# Altium schematic symbol library koncept.SchLib: 22 symbols
Pins are listed as number, name and electrical type; pins without a type are passive.

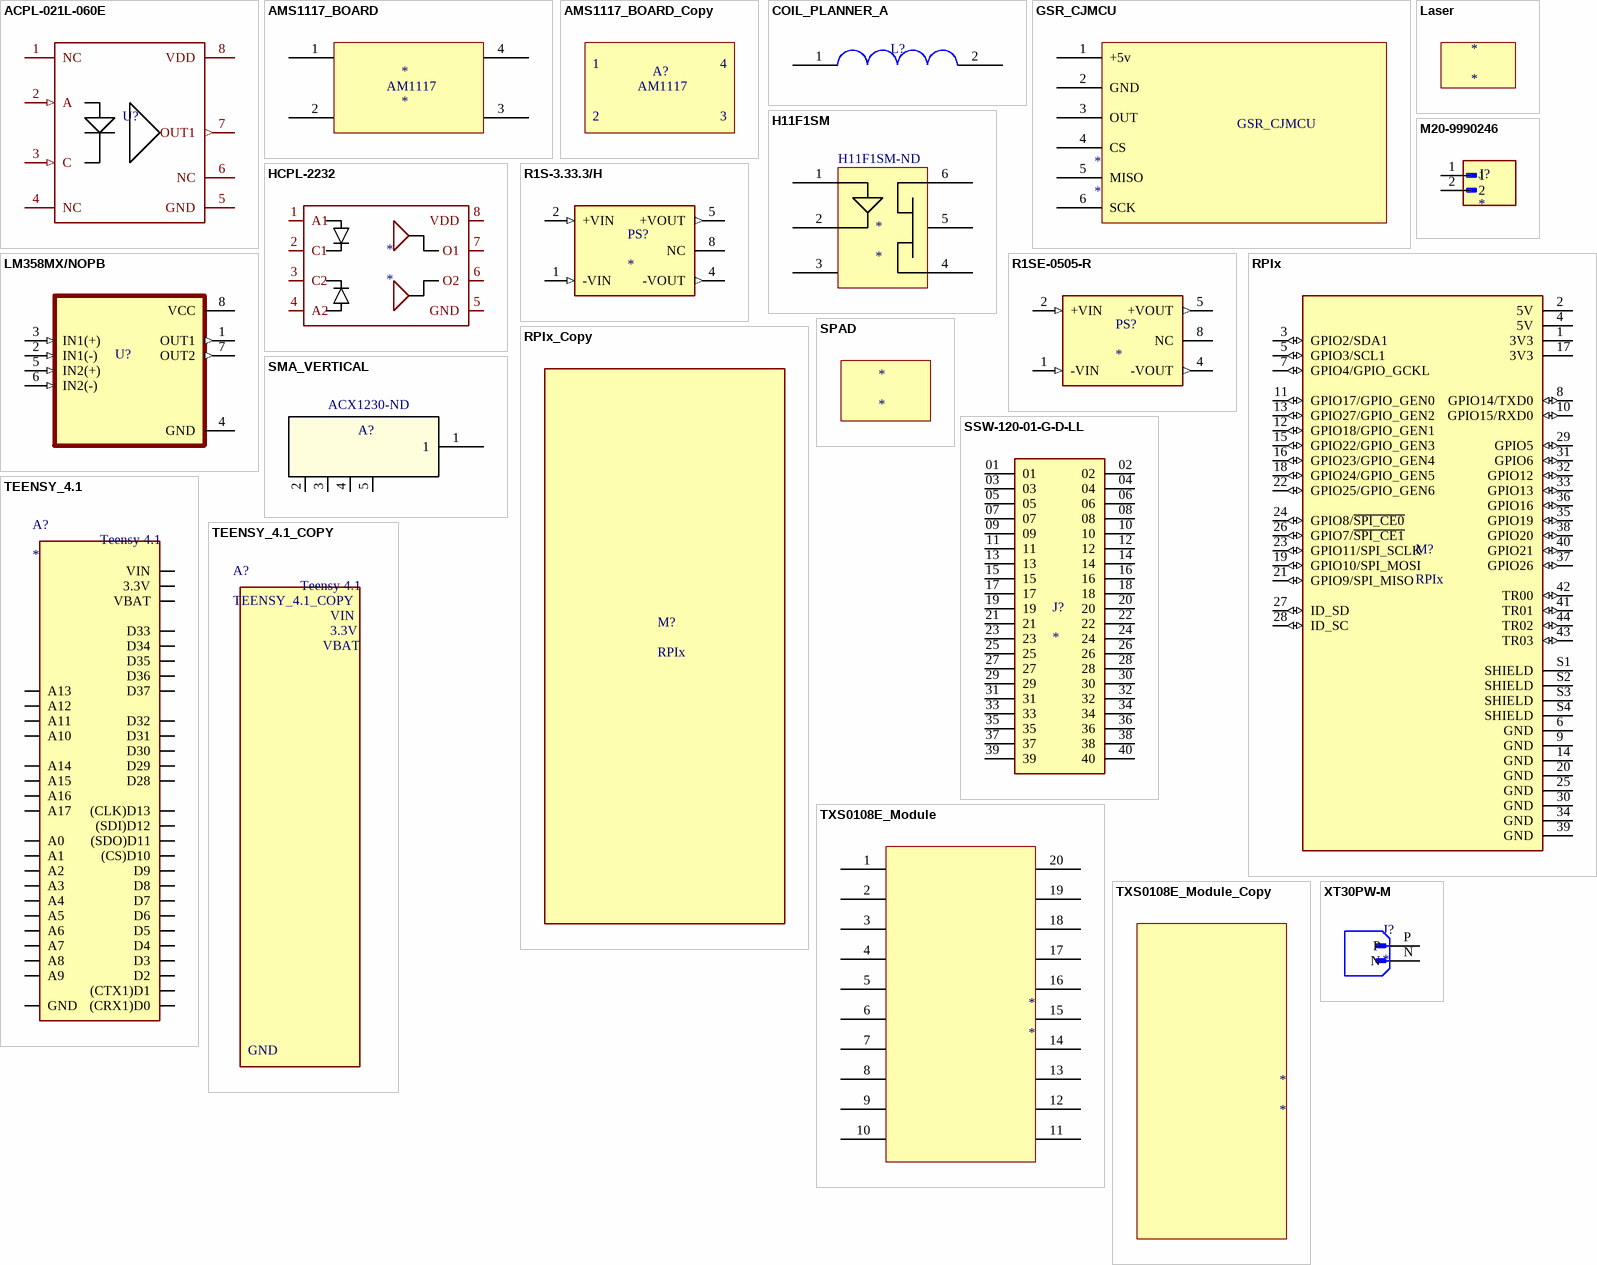
[diagram p0: symbols ACPL-021L-060E to XT30PW-M]

## ACPL-021L-060E
designator U?  (value not drawn)
OPTOISO 3.75KV PUSH PULL 8SO; Manufacturer: Broadcom Avago; Manufacturer Part Number: ACPL-021L-060E; Number of Channels: 1; Propagation Delay: 250ns; Direction: Unidirectional; Max Power Dissipation: 600mW; Output Current per Channel: 10mA; Fall Time: 0.011us; Forward Voltage: 1.5V; Output Type: PUSH-PULL; Input Type: DC; Supplier 1: Digikey; RoHS: Yes; Category: Optocouplers; Stock 1: 3610; Pricing 1: 1=2.64, 10=1.912, 100=1.4777, 500=1.28686, 1000=1.22467, 2000=1.172, 5000=1.11461 (USD); Mount: Surface Mount; Case/Package: SOIC; Number of Pins: 8; Min Operating Temperature: -40°C; Max Operating Temperature: 105°C; Package Quantity: 100; Packaging: Rail/Tube; Turn-On Delay Time: 250ns; Series: -; Radiation Hardening: No; RoHS Compliant: Yes; ComponentLink1URL: https://docs.broadcom.com/docs/AV02-3462EN?src-supplier=Digikey; ComponentLink1Description: https://docs.broadcom.com/docs/AV02-3462EN?src-supplier=Digikey; ComponentLink2URL: http://www.avagotech.com/docs/AV02-3462EN?src-supplier=Avnet; ComponentLink2Description: http://www.avagotech.com/docs/AV02-3462EN?src-supplier=Avnet; Supplier Part Number 1: ACPL-021L-060E-ND
pins: 1 NC, 2 A (in), 3 C (in), 4 NC, 5 GND, 6 NC, 7 OUT1 (out), 8 VDD (power)

## AMS1117_BOARD
designator *
footprint AM117_BOARD
pins: 1, 2, 3, 4
text: AM1117

## AMS1117_BOARD_Copy
designator A?  (value not drawn)
footprint AM117_BOARD_Copy
text: 1; 4; AM1117; 2; 3

## COIL_PLANNER_A
designator L?  (value not drawn)
footprint COIL_PLANNER_A
pins: 1, 2

## GSR_CJMCU
designator *
footprint CJMCU_GSR
pins: 1 +5v, 2 GND, 3 OUT, 4 CS, 5 MISO, 6 SCK

## H11F1SM
designator *  Supplier Part Number 1: H11F1SM-ND
Optocoupler DC-IN 1-CH Transistor DC-OUT 6-Pin PDIP SMD White Bulk; Manufacturer: onsemi; Manufacturer Part Number: H11F1SM; Max Power Dissipation: 300mW; Reverse Breakdown Voltage: 5V; Forward Voltage: 1.75V; Forward Current: 60mA; Number of Channels: 1; Max Output Voltage: 30V; Isolation Voltage: 5.25kV; Input Type: DC; Isolation Voltage-Max: 5.3kV; Turn-Off Delay Time: 45us; Supplier 1: Digikey; RoHS: Yes; Category: Optocouplers; Stock 1: 1561; Pricing 1: 1=1.49, 50=0.8592, 100=0.7943, 500=0.67846, 1000=0.6406, 2000=0.60852, 5000=0.57351, 10000=0.55172 (USD); Mount: Surface Mount; Case/Package: SMD/SMT; Number of Pins: 6; Weight: 0.81g; Min Operating Temperature: -40°C; Max Operating Temperature: 100°C; Packaging: Bulk; Package Quantity: 1000; Reverse Voltage (DC): 5V; Max Input Current: 60mA; Number of Elements: 1; Power Dissipation: 300mW; Min Breakdown Voltage: 30V; Series: -; Reverse Voltage: 5V; Turn-On Delay Time: 45us; Length: 8.89mm; Width: 6.6mm; Height: 3.53mm; Radiation Hardening: No; Lead Free: Lead Free; RoHS Compliant: Yes; ComponentLink1URL: https://datasheet.ciiva.com/11772/0900766b80b4f817-11772282.pdf?src-supplier=Rs; ComponentLink1Description: https://datasheet.ciiva.com/11772/0900766b80b4f817-11772282.pdf?src-supplier=Rs; ComponentLink2URL: https://datasheet.ciiva.com/15118/getdatasheetpartid-172469-15118870.pdf?src-supplier=Verical; ComponentLink2Description: https://datasheet.ciiva.com/15118/getdatasheetpartid-172469-15118870.pdf?src-supplier=Verical
footprint OPTOCOUPLER_H11F3SR2M
pins: 1, 2, 3, 4, 5, 6

## HCPL-2232
designator *
Optocoupler Logic Output Totem-Pole DC Input 2 Channel 8-Pin Plastic Dip Tube; Manufacturer: Broadcom Avago; Rise Time: 30ns; Number of Channels: 2; Output Current per Channel: 25mA; Isolation Voltage: 3.75kV; Data Rate: 5Mbps; Max Power Dissipation: 294mW; Propagation Delay: 300ns; Direction: Unidirectional; Forward Current: 10mA; Forward Voltage: 1.7V; Reverse Breakdown Voltage: 5V; Fall Time: 0.007us; Output Type: TOTEM POLE; Input Current: 1.8mA; Polarity: Non-Inverting; Supplier 1: Digikey; Manufacturer Part Number: HCPL-2232; RoHS: No; Category: Optocouplers; Stock 1: 448; Pricing 1: 1=14.3, 50=9.7886, 100=9.3402, 500=8.54718, 1000=8.29007 (USD); Mount: Through Hole; Case/Package: DIP; Number of Pins: 8; Min Operating Temperature: -40°C; Max Operating Temperature: 85°C; Packaging: Rail/Tube; Output Current: 25mA; Package Quantity: 50; Turn-On Delay Time: 300ns; Number of Elements: 2; Power Dissipation: 294mW; Series: -; Input Type: DC; Max Output Current: 25mA; Length: 9.65mm; Width: 6.35mm; Height: 3.56mm; Radiation Hardening: No; Lead Free: Contains Lead; RoHS Compliant: No; Reach SVHC Compliant: No; ComponentLink1URL: https://datasheet.ciiva.com/15119/getdatasheetpartid-112638-15119660.pdf?src-supplier=Verical; ComponentLink1Description: https://datasheet.ciiva.com/15119/getdatasheetpartid-112638-15119660.pdf?src-supplier=Verical; ComponentLink2URL: https://datasheet.ciiva.com/8065/310763-8065655.pdf?src-supplier=Element14; ComponentLink2Description: https://datasheet.ciiva.com/8065/310763-8065655.pdf?src-supplier=Element14; Supplier Part Number 1: 516-HCPL-2232-ND
footprint DIL08
pins: 1 A1 (power), 2 C1 (power), 3 C2 (power), 4 A2 (power), 5 GND (power), 6 O2 (power), 7 O1 (power), 8 VDD (power)

## Laser
designator *
footprint Laser

## LM358MX/NOPB
designator U?  (value not drawn)
ROHS3Compliant EAR99 LM358 Tape & Reel (TR) op amp amplifier circuit 4.9mm 0.05muA 7mV 1000kHz; Manufacturer: TI National Semiconductor; Bandwidth: 1MHz; Slew Rate: 0.1V/µs; Min Supply Voltage: 3V; Max Supply Voltage: 32V; Min Dual Supply Voltage: 1.5V; Max Dual Supply Voltage: 16V; Voltage Gain: 100dB; Common Mode Rejection Ratio: 65dB; Number of Circuits: 2; Input Offset Voltage (Vos): 2mV; Input Bias Current: 45nA; Operating Supply Current: 1mA; Power Dissipation: 530mW; Amplifier Type: GENERAL PURPOSE; Output Current per Channel: 40mA; Supplier 1: Digikey; Manufacturer Part Number: LM358MX/NOPB; RoHS: Yes; Category: Amplifiers - Op Amps, Buffer, Instrumentation; Stock 1: 13116; Pricing 1: 1=0.81, 10=0.576, 25=0.5184, 100=0.455, 250=0.42464, 500=0.40636, 1000=0.3913 (USD); Mount: Surface Mount; Case/Package: SOIC; Number of Pins: 8; Min Operating Temperature: 0°C; Max Operating Temperature: 70°C; Packaging: Tape and Reel; Unity Gain Bandwidth Product: 1MHz; Gain Bandwidth Product: 1MHz; Number of Amplifiers: 2; Number of Elements: 2; Power Supply Rejection Ratio (PSRR): 65dB; Series: -; Technology: BIPOLAR; Length: 4.9mm; Width: 3.91mm; Height: 1.75mm; Thickness: 1.58mm; Reach SVHC Compliant: No; Lead Free: Lead Free; ComponentLink1URL: https://datasheet.ciiva.com/6631/lm158-n-6631238.pdf?src-supplier=Digikey; ComponentLink1Description: https://datasheet.ciiva.com/6631/lm158-n-6631238.pdf?src-supplier=Digikey; ComponentLink2URL: https://datasheet.ciiva.com/6631/lm158-n-6631239.pdf?src-supplier=Digikey; ComponentLink2Description: https://datasheet.ciiva.com/6631/lm158-n-6631239.pdf?src-supplier=Digikey; ComponentLink3URL: https://datasheet.ciiva.com/6631/lm158-n-6631240.pdf?src-supplier=Digikey; ComponentLink3Description: https://datasheet.ciiva.com/6631/lm158-n-6631240.pdf?src-supplier=Digikey; ComponentLink4URL: https://datasheet.ciiva.com/8009/28655-8009193.pdf?src-supplier=Element14; ComponentLink4Description: https://datasheet.ciiva.com/8009/28655-8009193.pdf?src-supplier=Element14; Supplier Part Number 1: LM358MX/NOPBCT-ND
footprint SOIC127P599X175-8N
pins: 1 OUT1 (out), 2 IN1(-) (in), 3 IN1(+) (in), 4 GND (power), 5 IN2(+) (in), 6 IN2(-) (in), 7 OUT2 (out), 8 VCC (power)

## M20-9990246
designator J?
2.54mm (0.1) Pitch SIL Vertical Throughboard Pin Header, 6.1mm mating pin height, tin, 2 contacts; MF: Harwin; MP: M20-9990246; SnapEDA_Link: https://www.snapeda.com/parts/M20-9990246/Harwin/view-part/?ref=snap; Package: None; Value: *; Check_prices: https://www.snapeda.com/parts/M20-9990246/Harwin/view-part/?ref=eda; Supplier Part Number 1: 952-2262-ND
footprint HARWIN_M20-9990246
pins: 1, 2

## R1S-3.33.3/H
designator PS?
1W DC/DC-Converter 'ECONOLINE' SMD 3kV unreg; MF: Recom Power; MP: R1S-3.33.3/H; Value: *; Purchase-URL: https://pricing.snapeda.com/search/part/R1S-3.33.3/H/?ref=eda; Digi-Key_Part_Number: 945-1753-5-ND; Check_prices: https://www.snapeda.com/parts/R1S-3.33.3/H/Recom+Power/view-part/?ref=eda; SnapEDA_Link: https://www.snapeda.com/parts/R1S-3.33.3/H/Recom+Power/view-part/?ref=snap; Package: SMD-8 Recom Power
footprint CONV_R1S-3.33.3/H
pins: 1 -VIN (in), 2 +VIN (in), 4 -VOUT (out), 5 +VOUT (out), 8 NC

## R1SE-0505-R
designator PS?
1W DC/DC-Converter 'ECONOLINE' SMD 1kV unreg; MF: Recom Power; MP: R1SE-0505-R; SnapEDA_Link: https://www.snapeda.com/parts/R1SE-0505-R/Recom+Power/view-part/?ref=snap; Package: None; Value: *; Check_prices: https://www.snapeda.com/parts/R1SE-0505-R/Recom+Power/view-part/?ref=eda; Supplier Part Number 1: 945-1659-2-ND
footprint CONV_R1SE-0505-R
pins: 1 -VIN (in), 2 +VIN (in), 4 -VOUT (out), 5 +VOUT (out), 8 NC

## RPIx
designator M?
footprint MODULE_RASPBERRY_PI_3_MODEL_B+
pins: 1 3V3 (power), 2 5V (power), 3 GPIO2/SDA1 (io), 4 5V (power), 5 GPIO3/SCL1 (io), 6 GND (power), 7 GPIO4/GPIO_GCKL (io), 8 GPIO14/TXD0 (io), 9 GND (power), 10 GPIO15/RXD0 (io), 11 GPIO17/GPIO_GEN0 (io), 12 GPIO18/GPIO_GEN1 (io), 13 GPIO27/GPIO_GEN2 (io), 14 GND (power), 15 GPIO22/GPIO_GEN3 (io), 16 GPIO23/GPIO_GEN4 (io), 17 3V3 (power), 18 GPIO24/GPIO_GEN5 (io), 19 GPIO10/SPI_MOSI (io), 20 GND (power), 21 GPIO9/SPI_MISO (io), 22 GPIO25/GPIO_GEN6 (io), 23 GPIO11/SPI_SCLK (io), 24 GPIO8/~{SPI_CE0} (io), 25 GND (power), 26 GPIO7/~{SPI_CE1} (io), 27 ID_SD (io), 28 ID_SC (io), 29 GPIO5 (io), 30 GND (power), 31 GPIO6 (io), 32 GPIO12 (io), 33 GPIO13 (io), 34 GND (power), 35 GPIO19 (io), 36 GPIO16 (io), 37 GPIO26 (io), 38 GPIO20 (io), 39 GND (power), 40 GPIO21 (io), 41 TR01 (io), 42 TR00 (io), 43 TR03 (io), 44 TR02 (io), S1 SHIELD (power), S2 SHIELD (power), S3 SHIELD (power), S4 SHIELD (power)

## RPIx_Copy
designator M?, comment RPIx
footprint MODULE_RASPBERRY_PI_3_COPY

## SMA_VERTICAL
designator A?  Supplier Part Number 1: ACX1230-ND  (hidden comment: SMA_VERTICAL)
connector, rf coaxial, sma str jack for p.c.board, 4 legs, .050 center cont, 50 ohm; Manufacturer: Amphenol Connex; Manufacturer Part Number: 132134; Number of Contacts: 1NUMBER; Supplier 1: Digikey; RoHS: Yes; Category: RF / Coaxial Connectors; Stock 1: 8757; Pricing 1: 1=5.97, 10=5.52, 25=5.362, 50=4.965, 100=4.5941, 300=4.48817, 500=3.66732, 2500=3.43802 (USD); Lead Free: 5697LeadFree; ComponentLink1URL: https://datasheet.ciiva.com/644/132134-644417.pdf?src-supplier=Digikey; ComponentLink1Description: https://datasheet.ciiva.com/644/132134-644417.pdf?src-supplier=Digikey; ComponentLink2URL: https://datasheet.ciiva.com/1118/132134-customer-drawing-1118290.pdf?src-supplier=Newark; ComponentLink2Description: https://datasheet.ciiva.com/1118/132134-customer-drawing-1118290.pdf?src-supplier=Newark; ComponentLink3URL: https://datasheet.ciiva.com/24472/132134-24472891.pdf?src-supplier=Onlinecomponents.com; ComponentLink3Description: https://datasheet.ciiva.com/24472/132134-24472891.pdf?src-supplier=Onlinecomponents.com; ComponentLink4URL: https://datasheet.ciiva.com/8045/1510247-8045022.pdf?src-supplier=Element14; ComponentLink4Description: https://datasheet.ciiva.com/8045/1510247-8045022.pdf?src-supplier=Element14; ComponentLink5URL: https://datasheet.ciiva.com/1116/1510247-1116395.pdf?src-supplier=Element14; ComponentLink5Description: https://datasheet.ciiva.com/1116/1510247-1116395.pdf?src-supplier=Element14; ComponentLink6URL: https://datasheet.ciiva.com/14568/70031837-14568710.pdf?src-supplier=Allied+Electronics; ComponentLink6Description: https://datasheet.ciiva.com/14568/70031837-14568710.pdf?src-supplier=Allied+Electronics
footprint SMA_VERTICAL
pins: 1, 2, 3, 4, 5

## SPAD
designator *
footprint SPAD

## SSW-120-01-G-D-LL
designator J?
MF: Samtec Inc.; MP: SSW-120-01-G-D-LL; Value: *; Package: None; Price: None; Availability: Unavailable; Supplier Part Number 1: SSW-120-01-G-D-LL-ND
footprint SAMTEC_SSW-120-01-G-D-LL
pins: 01, 02, 03, 04, 05, 06, 07, 08, 09, 10, 11, 12, 13, 14, 15, 16, 17, 18, 19, 20, 21, 22, 23, 24, 25, 26, 27, 28, 29, 30, 31, 32, 33, 34, 35, 36, 37, 38, 39, 40

## TEENSY_4.1
designator A?
Teensy 4.1 with VBAT <br> <a href="https://www.pjrc.com/store/teensy41.html#pins">Datasheet</a> <br> Requires ordering of: <ul> <li>2: 24 pin, 0.1" pitch female headers</li> <li>1:  2 pin, 0.1" pitch female headers</li> </ul>; MF: PJRC; SnapEDA_Link: https://www.snapeda.com/parts/Teensy%204.1/PJRC/view-part/?ref=snap; Package: None; Value: *; MP: Teensy 4.1; Check_prices: https://www.snapeda.com/parts/Teensy%204.1/PJRC/view-part/?ref=eda
footprint TEENSY_LONG_EXT
pins: 3V3 3.3V (power), 3V3@2 3.3V (power), 3V3@3 3.3V (power), AGND/GND GND (io), D0 (CRX1)D0 (io), D1 (CTX1)D1 (io), D2 (io), D3 (io), D4 (io), D5 (io), D6 (io), D7 (io), D8 (io), D9 (io), D10 (CS)D10 (io), D11 (SDO)D11 (io), D12 (SDI)D12 (io), D13 (CLK)D13 (io), D14 A0 (io), D15 A1 (io), D16 A2 (io), D17 A3 (io), D18 A4 (io), D19 A5 (io), D20 A6 (io), D21 A7 (io), D22 A8 (io), D23 A9 (io), D24 A10 (io), D25 A11 (io), D26 A12 (io), D27 A13 (io), D28 (io), D29 (io), D30 (io), D31 (io), D32 (io), D33 (io), D34 (io), D35 (io), D36 (io), D37 (io), D38 A14 (io), D39 A15 (io), D40 A16 (io), D41 A17 (io), GND (io), GND@2 GND (io), VBAT (power), VIN (power)

## TEENSY_4.1_COPY
designator A?
Teensy 4.1 with VBAT <br> <a href="https://www.pjrc.com/store/teensy41.html#pins">Datasheet</a> <br> Requires ordering of: <ul> <li>2: 24 pin, 0.1" pitch female headers</li> <li>1:  2 pin, 0.1" pitch female headers</li> </ul>; MF: PJRC; SnapEDA_Link: https://www.snapeda.com/parts/Teensy%204.1/PJRC/view-part/?ref=snap; Package: None; Value: *; MP: Teensy 4.1; Check_prices: https://www.snapeda.com/parts/Teensy%204.1/PJRC/view-part/?ref=eda
footprint TEENSY_LONG_EXT_COPY
text: VIN; 3.3V; VBAT; GND

## TXS0108E_Module
designator *
footprint TXS0108E_Module
pins: 1, 2, 3, 4, 5, 6, 7, 8, 9, 10, 11, 12, 13, 14, 15, 16, 17, 18, 19, 20

## TXS0108E_Module_Copy
designator *
footprint TXS0108E_Module_Copy

## XT30PW-M
designator J?
Socket; DC supply; XT30; male; PIN: 2; on PCBs; THT; Colour: yellow; MF: AMASS; MP: XT30PW-M; SnapEDA_Link: https://www.snapeda.com/parts/XT30PW-M/AMASS/view-part/?ref=snap; Package: None; Value: *; Check_prices: https://www.snapeda.com/parts/XT30PW-M/AMASS/view-part/?ref=eda; Supplier Part Number 1: C431092
footprint AMASS_XT30PW-M
pins: N (power), P (power)